# Altium schematic symbol library HotSwap.SchLib: 1 symbol
Pins are listed as number, name and electrical type; pins without a type are passive.

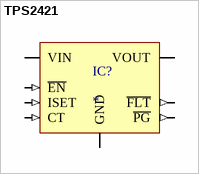
[diagram p0: symbol TPS2421]

## TPS2421
designator IC?
Hot swap controller
footprint HSOP-8_N (HSOP, 8-Leads, Body 4x5x1.7mm, Pitch 1.27mm, Lead Span 6.2mm, IPC Medium Density)
pins: 1 ~{FLT} (out), 2 ~{EN} (in), 3 VIN (power), 4 GND (power), 5 ISET (in), 6 CT (in), 7 VOUT (power), 8 ~{PG} (out)